# EAGLE library part KEYPAD-8 (library machine_science)
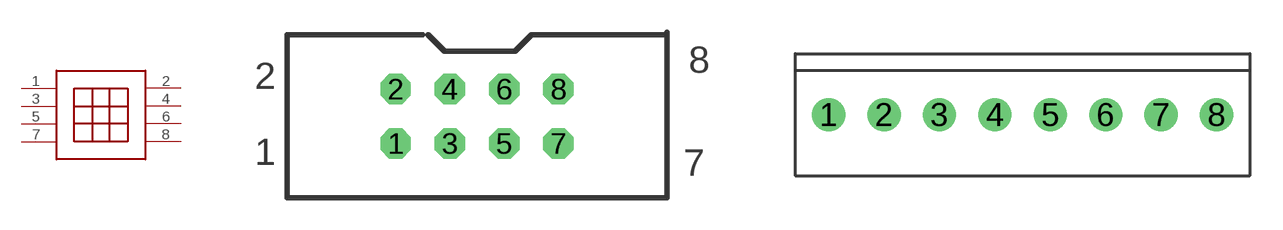
[diagram p25: symbol with the pads of J-KEY-8; footprints J-KEY-8, WM20XX_8PIN]

Designator prefix -

## KEYPAD-8  [J-KEY-8]
1  1  pas
2  2  pas
3  3  pas
4  4  pas
5  5  pas
6  6  pas
7  7  pas
8  8  pas

## KEYPAD-8MOLEX.1  [WM20XX_8PIN]
Pads as for J-KEY-8

## Footprint J-KEY-8 (pad centres in mm)
drill 0.914 octagon: 1 -3.81,-1.27; 2 -3.81,1.27; 3 -1.27,-1.27; 4 -1.27,1.27; 5 1.27,-1.27; 6 1.27,1.27; 7 3.81,-1.27; 8 3.81,1.27

## Footprint WM20XX_8PIN (pad centres in mm)
drill 1.016 round: 1 -6.35,0; 2 -3.81,0; 3 -1.27,0; 4 1.27,0; 5 3.81,0; 6 6.35,0; 7 8.89,0; 8 11.43,0